# Altium schematic symbol library LTST-C193KSKT-5A.SchLib: 1 symbol
Pins are listed as number, name and electrical type; pins without a type are passive.

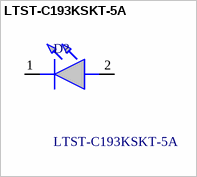
[diagram p0: symbol LTST-C193KSKT-5A]

## LTST-C193KSKT-5A
designator D?
2.3 V Yellow LED 1608 (0603)  SMD, Lite-On LTST-C193KSKT-5A; Geometry.Height: 0.45mm; Manufacturer_Name: Lite-On; Manufacturer_Part_Number: LTST-C193KSKT-5A; Mouser Part Number: 859-LTSTC193KSKT5A; Mouser Price/Stock: https://www.mouser.co.uk/ProductDetail/Lite-On/LTST-C193KSKT-5A?qs=xIkB7y1OTopS52H3QXHfig%3D%3D; Arrow Part Number: LTST-C193KSKT-5A; Arrow Price/Stock: https://www.arrow.com/en/products/ltst-c193kskt-5a/lite-on-technology?utm_currency=USD&region=nac; Datasheet Link: http://uk.rs-online.com/web/p/products/6921054
footprint LEDC1608X45N
pins: 1 K, 2 A